# EAGLE library part LT1763 (library Water Use)
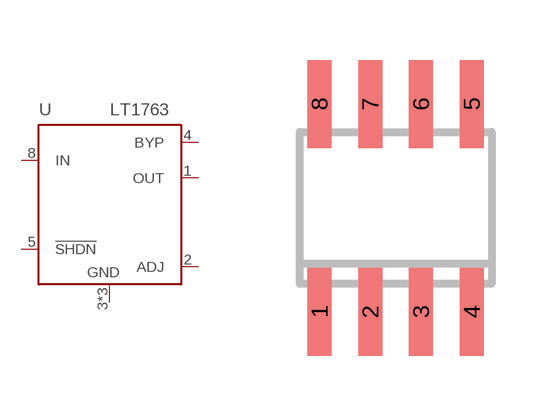
[diagram p3: symbol with the pads of SOIC8; footprint SOIC8]

Designator prefix -

## LT1763  [SOIC8]
1  OUT  pas
2  ADJ  in
3  GND  pwr
4  BYP  in
5  !SHDN  in
6  GND  pwr
7  GND  pwr
8  IN  in

## Footprint SOIC8 (pad centres in mm)
Small Outline IC
smd 0.6 x 2.2: 1 -1.905,-2.6; 2 -0.635,-2.6; 3 0.635,-2.6; 4 1.905,-2.6; 5 1.905,2.6; 6 0.635,2.6; 7 -0.635,2.6; 8 -1.905,2.6